# Altium schematic symbol library L298.SchLib: 1 symbol
Pins are listed as number, name and electrical type; pins without a type are passive.

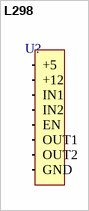
[diagram p0: symbol L298]

## L298
designator U?  (value not drawn)
footprint DIP16
pins: 1 +5, 2 +12, 3 IN1, 4 IN2, 5 EN, 6 OUT1, 7 OUT2, 8 GND